# Altium footprint library test.PcbLib: 1 footprints
Each footprint in its own frame and in the unit in brackets; x right, y up, seen from the top. Pads: shape width x height; smd on the part's side, far side on the other; paste and mask are expansions set on the pad; w line width, h text height; cw(c..) or ccw(c..) is an arc to the next point about the centre after c.
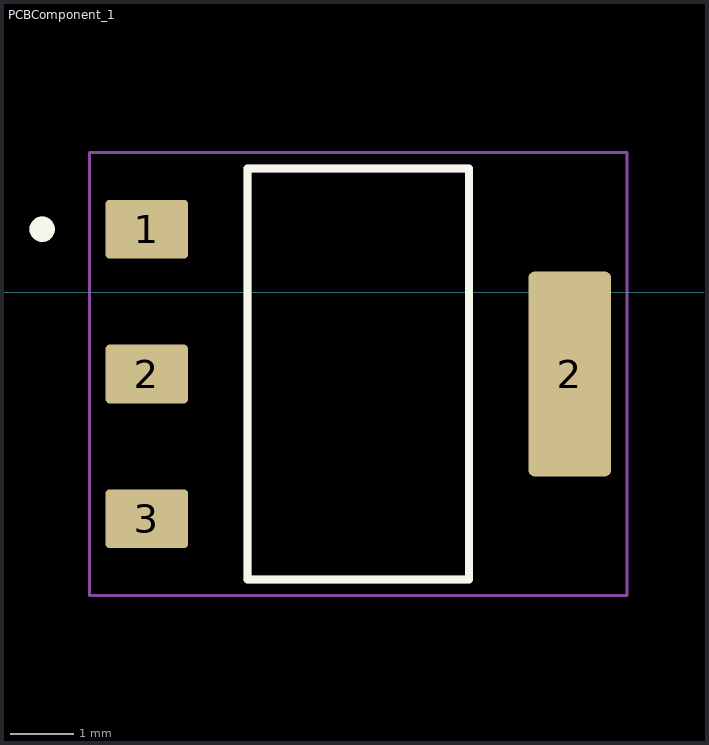
[diagram p0: the footprint, top view; thin cyan lines are the x and y axes]

## PCBComponent_1 [mm]
pads (4):
  rrect15% 1.31x0.93 smd: 1(-11.933,1) 2(-11.933,-1.29) 3(-11.933,-3.58)
  rrect15% 1.31x3.24 smd: 2(-5.243,-1.29)
Top Overlay:
  circle w0.2: c-13.588,1 r0.1
  lines w0.127: -10.341,-4.542 -10.341,1.963 -6.836,1.963 -6.836,-4.542 -10.341,-4.542
Mechanical 13:
  circle w0.2: c-13.588,1 r0.1
  lines w0.127: -10.341,-4.542 -10.341,1.963 -6.836,1.963 -6.836,-4.542 -10.341,-4.542
Mechanical 15:
  lines w0.05: -12.838,-4.792 -4.338,-4.792 -4.338,2.213 -12.838,2.213 -12.838,-4.792
3D body "step_temp.STEP": height 1.8, standoff 0, extent -12.087,-4.541 -5.089,1.961